# Altium integrated library Infineon_Power_MOSFET.IntLib: 1448 symbols (part 33 of 47)
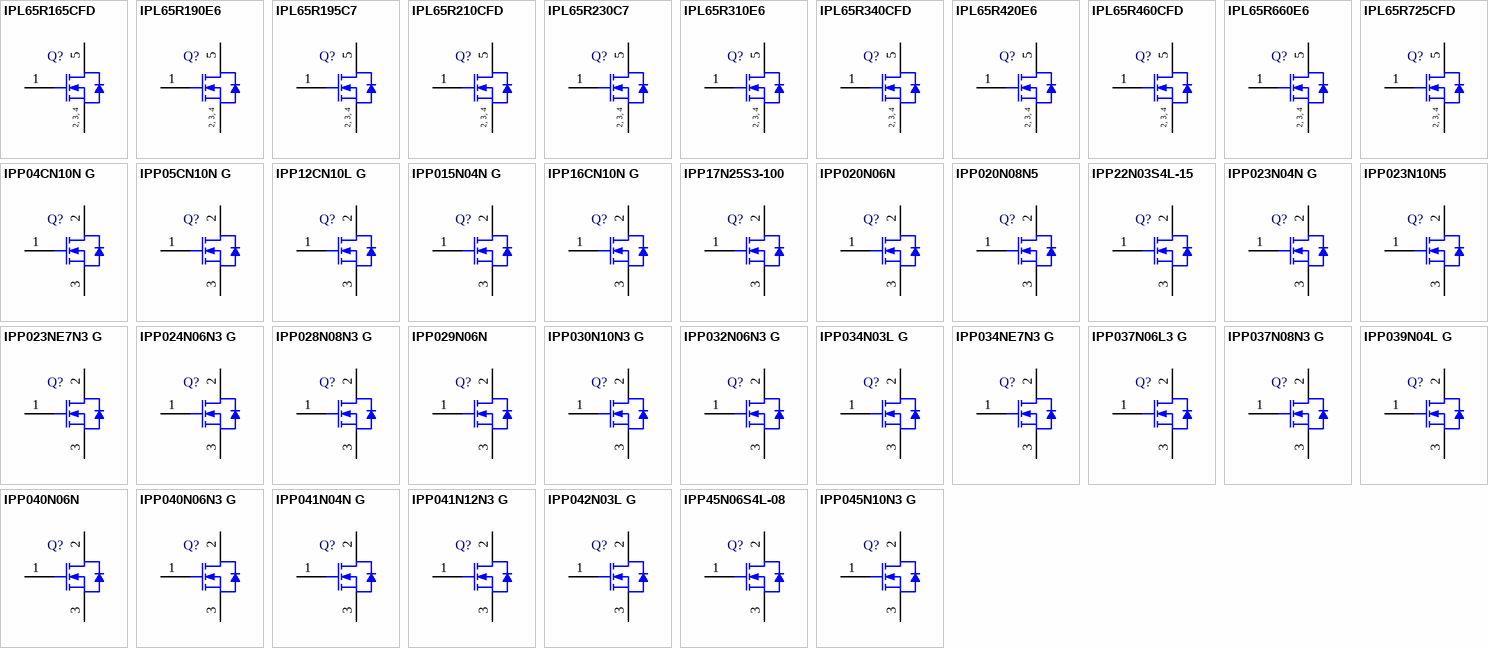
[diagram p69: symbols IPL65R165CFD to IPP045N10N3 G]

## IPP039N04L G
designator Q?
N-Channel OptiMOS 3 Power-Transistor, 40 V VDS, 80 A ID, -55 to 175 degC, PG-TO220-3-1, Tube, Green; Manufacturer: Infineon; PartNumber: IPP039N04L G; Green: TRUE; ID (max): 80 A; IDpuls (max): 400 A; Polarity: N; Ptot (max): 94 W; QG: 28 nC; RDS (on) (max): 3.9 mOhm; RDS (on) (max) (@4.5V): 5.2 mOhm; Rth: 1.6 K/W; RthJA (max): 62 K/W; VDS (max): 40 V; VGS(th) (max): 2 V; VGS(th) (min): 1.2 V; DatasheetVersion: Rev. 1.0; PackageVersion: Jul-12; PackageReference: PG-TO220-3-1; PackageDescription: 3-Pin Plastic (Green) Transistor Single Outline Package, 10 x 9.25 mm Body, 2.54 mm Pitch; Supplier 1: Mouser; Supplier Part Number 1: 726-IPP039N04LG; Supplier 2: Newark; Supplier Part Number 2: 60R2732; Supplier 3: Farnell; Supplier Part Number 3: 1775618; Supplier 4: Digi-Key; Supplier Part Number 4: IPP039N04L G-ND; Halogen-free: TRUE; Packing: Tube; RthJC (max): 1.6 K/W; Mounting Technology: Through Hole; ComponentLink1Description: Manufacturer URL; ComponentLink1URL: http://www.infineon.com/; ComponentLink2Description: Datasheet; ComponentLink2URL: http://www.infineon.com/dgdl/IPB039N04L_rev1%5B1%5D.pdf?folderId=db3a304313b8b5a60113cee8763b02d7&fileId=db3a30432313ff5e01239f14ac947132; ComponentLink3Description: Package Specification; ComponentLink3URL: http://www.infineon.com/dgdl/BTS117_DS_14.pdf?folderId=db3a30431400ef68011421b54e2e0564&fileId=db3a30433a747525013abff8302d549c&location=en.Products.Automotive_ICs.Smart_High-_and_Low-Side_Switches.HITFET___TEMPFET__-_Smart_Low-Side_Switches.DATASHEET.BTS117_DS_14.pdf
footprint INF-PG-TO220-3-1 (FM, 3-Leads, Body 10x4.4mm, Pitch 2.54mm)
pins: 1 GATE, 2 DRAIN, 3 SOURCE

## IPP040N06N
designator Q?
N-Channel OptiMOS Power-Transistor, 60 V VDS, 80 A ID, -55 to 175 degC, PG-TO220-3-1, Tube, Green; Manufacturer: Infineon; PartNumber: IPP040N06N; Green: TRUE; ID (max): 80 A; IDpuls (max): 320 A; Polarity: N; Ptot (max): 107 W; QG: 38 nC; RDS (on) (max): 4 mOhm; Rth: 1.4 K/W; RthJA (max): 62 K/W; VDS (max): 60 V; VGS(th) (max): 3.3 V; VGS(th) (min): 2.1 V; DatasheetVersion: Rev. 2.2; PackageVersion: Rev. 05, 08/2007; PackageReference: PG-TO220-3-1; PackageDescription: 3-Pin Plastic (Green) Transistor Single Outline Package, 10.03 x 8.98 mm Body, 2.54 mm Pitch; Supplier 1: Digi-Key; Supplier Part Number 1: IPP040N06N-ND; Halogen-free: TRUE; Packing: Tube; RthJC (max): 1.4 K/W; Mounting Technology: Through Hole; ComponentLink1Description: Manufacturer URL; ComponentLink1URL: http://www.infineon.com/; ComponentLink2Description: Datasheet; ComponentLink2URL: http://www.infineon.com/dgdl/IPP040N06N_Rev2.2.pdf?folderId=db3a304313b8b5a60113cee8763b02d7&fileId=db3a30433727a44301372bbaa5ad4942; ComponentLink3Description: Package Specification; ComponentLink3URL: http://www.infineon.com/dgdl/IPP028N08N3_Rev1%5B1%5D.0.pdf?folderId=db3a304313b8b5a60113cee8763b02d7&fileId=db3a30432313ff5e0123a3c08e7326b5
footprint INF-PG-TO220-3-1_A_V (FM, 3-Leads, Body 10.03x8.98mm, Pitch 2.54mm)
pins: 1 GATE, 2 DRAIN, 3 SOURCE

## IPP040N06N3 G
designator Q?
N-Channel OptiMOS 3 Power-Transistor, 60 V VDS, 90 A ID, -55 to 175 degC, PG-TO220-3-1, Tube, Green; Manufacturer: Infineon; PartNumber: IPP040N06N3 G; Green: TRUE; ID (max): 90 A; IDpuls (max): 360 A; Polarity: N; Ptot (max): 150 W; QG: 98 nC; RDS (on) (max): 4 mOhm; Rth: 1 K/W; RthJA (max): 62 K/W; RthJC (max): 0.8 K/W; VDS (max): 60 V; VGS(th) (max): 4 V; VGS(th) (min): 2 V; DatasheetVersion: Rev. 1.03; PackageVersion: Rev. 05, 08/2007; PackageReference: PG-TO220-3-1; PackageDescription: 3-Pin Plastic (Green) Transistor Single Outline Package, 10.03 x 8.98 mm Body, 2.54 mm Pitch; Supplier 1: Mouser; Supplier Part Number 1: 726-IPP040N06N3G; Supplier 2: Newark; Supplier Part Number 2: 60R2734; Supplier 3: Farnell; Supplier Part Number 3: 1775619; Supplier 4: Digi-Key; Supplier Part Number 4: IPP040N06N3 G-ND; Halogen-free: TRUE; Packing: Tube; Mounting Technology: Through Hole; ComponentLink1Description: Manufacturer URL; ComponentLink1URL: http://www.infineon.com/; ComponentLink2Description: Datasheet; ComponentLink2URL: http://www.infineon.com/dgdl/IPP040N06N3_Rev13.pdf?folderId=db3a304313b8b5a60113cee8763b02d7&fileId=db3a30432313ff5e01239f31f7be717f; ComponentLink3Description: Package Specification; ComponentLink3URL: http://www.infineon.com/dgdl/IPP028N08N3_Rev1%5B1%5D.0.pdf?folderId=db3a304313b8b5a60113cee8763b02d7&fileId=db3a30432313ff5e0123a3c08e7326b5
footprint INF-PG-TO220-3-1_A_V (FM, 3-Leads, Body 10.03x8.98mm, Pitch 2.54mm)
pins: 1 GATE, 2 DRAIN, 3 SOURCE

## IPP041N04N G
designator Q?
N-Channel OptiMOS 3 Power-Transistor, 40 V VDS, 80 A ID, -55 to 175 degC, PG-TO220-3-1, Tube, Green; Manufacturer: Infineon; PartNumber: IPP041N04N G; Green: TRUE; ID (max): 80 A; IDpuls (max): 400 A; Polarity: N; Ptot (max): 94 W; QG: 42 nC; RDS (on) (max): 4.1 mOhm; Rth: 1.6 K/W; RthJA (max): 62 K/W; VDS (max): 40 V; VGS(th) (max): 4 V; VGS(th) (min): 2 V; DatasheetVersion: Rev. 1.2; PackageVersion: Rev. 05, 08/2007; PackageReference: PG-TO220-3-1; PackageDescription: 3-Pin Plastic (Green) Transistor Single Outline Package, 10.03 x 8.98 mm Body, 2.54 mm Pitch; Supplier 1: Mouser; Supplier Part Number 1: 726-IPP041N04NG; Supplier 2: Farnell; Supplier Part Number 2: 1775620; Supplier 3: Digi-Key; Supplier Part Number 3: IPP041N04N G-ND; Halogen-free: TRUE; Packing: Tube; RthJC (max): 1.6 K/W; Mounting Technology: Through Hole; ComponentLink1Description: Manufacturer URL; ComponentLink1URL: http://www.infineon.com/; ComponentLink2Description: Datasheet; ComponentLink2URL: http://www.infineon.com/dgdl/IPB041N04N_rev2.pdf?folderId=db3a304313b8b5a60113cee8763b02d7&fileId=db3a30432313ff5e01239f19fec57142; ComponentLink3Description: Package Specification; ComponentLink3URL: http://www.infineon.com/dgdl/IPP028N08N3_Rev1%5B1%5D.0.pdf?folderId=db3a304313b8b5a60113cee8763b02d7&fileId=db3a30432313ff5e0123a3c08e7326b5
footprint INF-PG-TO220-3-1_A_V (FM, 3-Leads, Body 10.03x8.98mm, Pitch 2.54mm)
pins: 1 GATE, 2 DRAIN, 3 SOURCE

## IPP041N12N3 G
designator Q?
N-Channel OptiMOS 3 Power-Transistor, 120 V VDS, 120 A ID, -55 to 175 degC, PG-TO220-3-1_A, Tube, Green; Manufacturer: Infineon; PartNumber: IPP041N12N3 G; Green: TRUE; ID (max): 120 A; IDpuls (max): 480 A; Polarity: N; Ptot (max): 300 W; QG: 158 nC; RDS (on) (max): 4.1 mOhm; Rth: 0.5 K/W; RthJA (max): 62 K/W; VDS (max): 120 V; VGS(th) (max): 4 V; VGS(th) (min): 2 V; DatasheetVersion: Rev. 2.2; PackageVersion: Rev. 05, 08/2007; PackageReference: PG-TO220-3-1; PackageDescription: 3-Pin Plastic (Green) Transistor Single Outline Package, 10.03 x 8.98 mm Body, 2.54 mm Pitch; Supplier 1: Mouser; Supplier Part Number 1: 726-IPP041N12N3GXK; Supplier 2: Newark; Supplier Part Number 2: 47W3477; Supplier 3: Farnell; Supplier Part Number 3: 2212848; Supplier 4: Digi-Key; Supplier Part Number 4: IPP041N12N3 G-ND; Halogen-free: TRUE; Packing: Tube; RthJC (max): 0.5 K/W; Mounting Technology: Through Hole; ComponentLink1Description: Manufacturer URL; ComponentLink1URL: http://www.infineon.com/; ComponentLink2Description: Datasheet; ComponentLink2URL: http://www.infineon.com/dgdl/IPP_I_B041N12N3_Rev2.2.pdf?folderId=db3a304313b8b5a60113cee8763b02d7&fileId=db3a30432239cccd0122a75b86467ca4; ComponentLink3Description: Package Specification; ComponentLink3URL: http://www.infineon.com/dgdl/IPP028N08N3_Rev1%5B1%5D.0.pdf?folderId=db3a304313b8b5a60113cee8763b02d7&fileId=db3a30432313ff5e0123a3c08e7326b5
footprint INF-PG-TO220-3-1_A_V (FM, 3-Leads, Body 10.03x8.98mm, Pitch 2.54mm)
pins: 1 GATE, 2 DRAIN, 3 SOURCE

## IPP042N03L G
designator Q?
N-Channel OptiMOS 3 Power-Transistor, 30 V VDS, 70 A ID, -55 to 175 degC, PG-TO220-3-1, Tube, Green; Manufacturer: Infineon; PartNumber: IPP042N03L G; Green: TRUE; ID (max): 70 A; IDpuls (max): 400 A; Polarity: N; Ptot (max): 79 W; QG: 38 nC; RDS (on) (max): 4.2 mOhm; RDS (on) (max) (@4.5V): 6 mOhm; Rth: 1.9 K/W; RthJA (max): 62 K/W; RthJC (max): 1.9 K/W; VDS (max): 30 V; VGS(th) (max): 2.2 V; VGS(th) (min): 1 V; DatasheetVersion: Rev. 2.0; PackageVersion: Rev. 05, 08/2007; PackageReference: PG-TO220-3-1; PackageDescription: 3-Pin Plastic (Green) Transistor Single Outline Package, 10.03 x 8.98 mm Body, 2.54 mm Pitch; Supplier 1: Mouser; Supplier Part Number 1: 726-IPP042N03LG; Supplier 2: Newark; Supplier Part Number 2: 60R2736; Supplier 3: Farnell; Supplier Part Number 3: 1775621; Supplier 4: Digi-Key; Supplier Part Number 4: IPP042N03LGIN-ND; Halogen-free: TRUE; Packing: Tube; Mounting Technology: Through Hole; ComponentLink1Description: Manufacturer URL; ComponentLink1URL: http://www.infineon.com/; ComponentLink2Description: Datasheet; ComponentLink2URL: http://www.infineon.com/dgdl/IPP042N03L_rev2.pdf?folderId=db3a304313b8b5a60113cee8763b02d7&fileId=db3a30432313ff5e01239ec50f64709d; ComponentLink3Description: Package Specification; ComponentLink3URL: http://www.infineon.com/dgdl/IPP028N08N3_Rev1%5B1%5D.0.pdf?folderId=db3a304313b8b5a60113cee8763b02d7&fileId=db3a30432313ff5e0123a3c08e7326b5
footprint INF-PG-TO220-3-1_A_V (FM, 3-Leads, Body 10.03x8.98mm, Pitch 2.54mm)
pins: 1 GATE, 2 DRAIN, 3 SOURCE

## IPP45N06S4L-08
designator Q?
OptiMOS-T2 Power-Transistor, 60 V VDS, 45 A ID, PG-TO220-3-1, Tube, Green; Manufacturer: Infineon; PartNumber: IPP45N06S4L-08; Green: TRUE; ID (max): 45 A; IDpuls (max): 180 A; Ptot (max): 71 W; QG: 49 nC; RDS (on) (max) (@10V): 8.2 mOhm; RDS (on) (max) (@4.5V): 14 mOhm; RthJC (max): 2.1 K/W; VDS (max): 60 V; VGS(th) (max): 2 V; VGS(th) (min): 1.2 V; DatasheetVersion: Rev. 1.0; PackageVersion: Jul-12; PackageReference: PG-TO220-3-1; PackageDescription: 3-Pin Plastic (Green) Transistor Single Outline Package, 10 x 9.25 mm Body, 2.54 mm Pitch; Supplier 1: Mouser; Supplier Part Number 1: 726-IPP45N06S4L-08; Supplier 2: Digi-Key; Supplier Part Number 2: IPP45N06S4L-08-ND; Halogen-free: TRUE; Packing: Tube; Technology: OptiMOS-T2; Mounting Technology: Through Hole; ComponentLink1Description: Manufacturer URL; ComponentLink1URL: http://www.infineon.com/; ComponentLink2Description: Datasheet; ComponentLink2URL: http://www.infineon.com/dgdl/IPP_B_I45N06S4L-08_DS_10.pdf?folderId=db3a30431a5c32f2011a8084a04a6500&fileId=db3a30431ff98815012038fbf79a0d1c&location=en.Products.Automotive_ICs.Automotive_MOSFETs.Single__N-Channel_60V_MOSFETs.DATASHEET.IPP_B_I45N06S4L-08_DS_10.pdf; ComponentLink3Description: Package Specification; ComponentLink3URL: http://www.infineon.com/dgdl/BTS117_DS_14.pdf?folderId=db3a30431400ef68011421b54e2e0564&fileId=db3a30433a747525013abff8302d549c&location=en.Products.Automotive_ICs.Smart_High-_and_Low-Side_Switches.HITFET___TEMPFET__-_Smart_Low-Side_Switches.DATASHEET.BTS117_DS_14.pdf
footprint INF-PG-TO220-3-1 (FM, 3-Leads, Body 10x4.4mm, Pitch 2.54mm)
pins: 1 GATE, 2 DRAIN, 3 SOURCE

## IPP045N10N3 G
designator Q?
N-Channel OptiMOS 3 Power-Transistor, 100 V VDS, 100 A ID, -55 to 175 degC, PG-TO220-3-1, Tube, Green; Manufacturer: Infineon; PartNumber: IPP045N10N3 G; Green: TRUE; ID (max): 100 A; IDpuls (max): 400 A; Polarity: N; Ptot (max): 214 W; QG: 88 nC; RDS (on) (max): 4.5 mOhm; Rth: 0.7 K/W; RthJA (max): 62 K/W; VDS (max): 100 V; VGS(th) (max): 3.5 V; VGS(th) (min): 2 V; DatasheetVersion: Rev. 2.5; PackageVersion: Rev. 05, 08/2007; PackageReference: PG-TO220-3-1; PackageDescription: 3-Pin Plastic (Green) Transistor Single Outline Package, 10.03 x 8.98 mm Body, 2.54 mm Pitch; Supplier 1: Mouser; Supplier Part Number 1: 726-IPP045N10N3G; Supplier 2: Digi-Key; Supplier Part Number 2: IPP045N10N3 G-ND; Halogen-free: TRUE; Packing: Tube; RthJC (max): 0.7 K/W; Mounting Technology: Through Hole; ComponentLink1Description: Manufacturer URL; ComponentLink1URL: http://www.infineon.com/; ComponentLink2Description: Datasheet; ComponentLink2URL: http://www.infineon.com/dgdl/IPP045N10N3+G_Rev2.5.pdf?folderId=db3a304313b8b5a60113cee8763b02d7&fileId=db3a30431ce5fb52011d1e8b0cc31586; ComponentLink3Description: Package Specification; ComponentLink3URL: http://www.infineon.com/dgdl/IPP028N08N3_Rev1%5B1%5D.0.pdf?folderId=db3a304313b8b5a60113cee8763b02d7&fileId=db3a30432313ff5e0123a3c08e7326b5
footprint INF-PG-TO220-3-1_A_V (FM, 3-Leads, Body 10.03x8.98mm, Pitch 2.54mm)
pins: 1 GATE, 2 DRAIN, 3 SOURCE

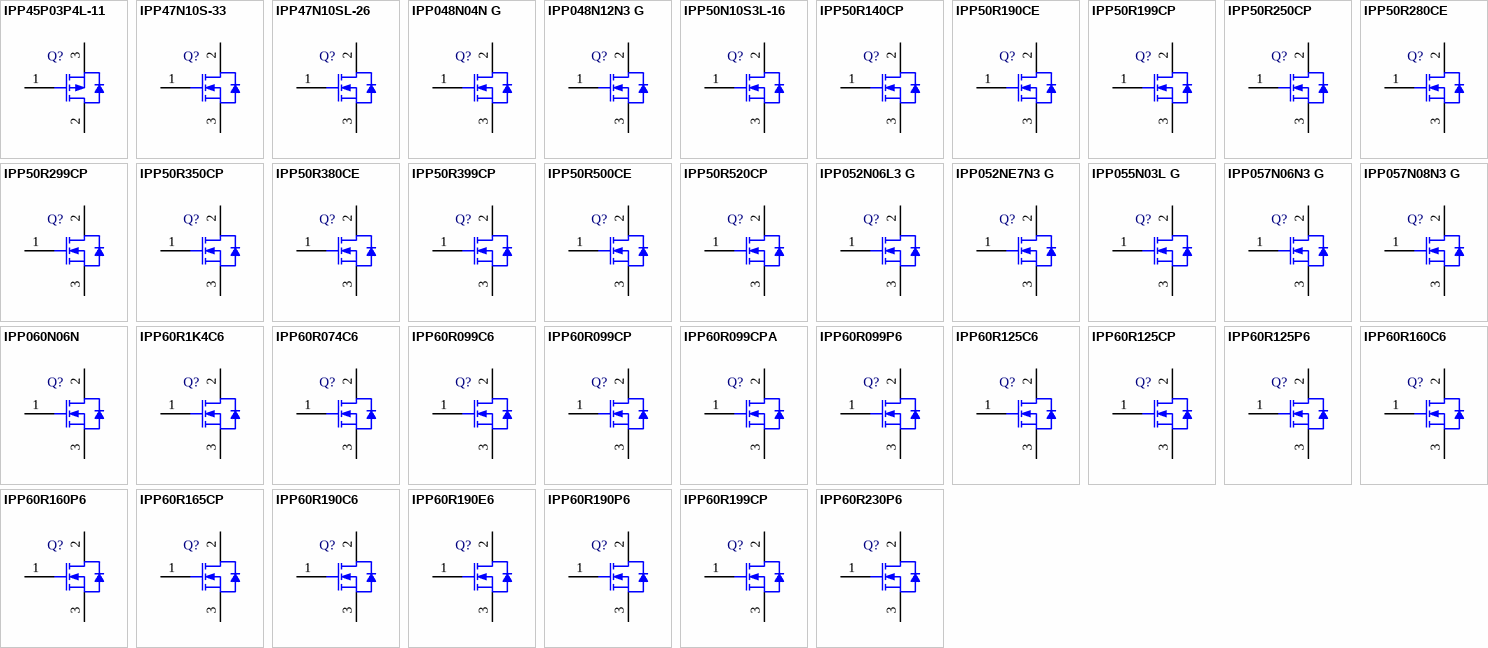
[diagram p26: symbols IPP45P03P4L-11 to IPP60R230P6]

## IPP45P03P4L-11
designator Q?
OptiMOS-P2 Power-Transistor, -30 V VDS, -45 A ID, PG-TO220-3-1, Tube, Green; Manufacturer: Infineon; PartNumber: IPP45P03P4L-11; Green: TRUE; ID (max): -45 A; IDpuls (max): -180 A; Ptot (max): 58 W; QG: 42 nC; RDS (on) (max) (@10V): 11.1 mOhm; RDS (on) (max) (@4.5V): 18.7 mOhm; RthJC (max): 2.6 K/W; VDS (max): -30 V; VGS(th) (max): -2 V; VGS(th) (min): -1 V; DatasheetVersion: Rev. 1.0; PackageVersion: Jul-12; PackageReference: PG-TO220-3-1; PackageDescription: 3-Pin Plastic (Green) Transistor Single Outline Package, 10 x 9.25 mm Body, 2.54 mm Pitch; Supplier 1: Mouser; Supplier Part Number 1: 726-IPP45P03P4L-11; Supplier 2: Digi-Key; Supplier Part Number 2: IPP45P03P4L-11-ND; Halogen-free: TRUE; Packing: Tube; Technology: OptiMOS-P2; Mounting Technology: Through Hole; ComponentLink1Description: Manufacturer URL; ComponentLink1URL: http://www.infineon.com/; ComponentLink2Description: Datasheet; ComponentLink2URL: http://www.infineon.com/dgdl/IPP_B_I45P03P4L-11_DS_10.pdf?folderId=db3a304314dca3890114ef902baa05f9&fileId=db3a30431ddc9372011e07ee39732802&location=en.Products.Automotive_ICs.Automotive_MOSFETs.Single__P-Channel_30V_MOSFETs.DATASHEET.IPP_B_I45P03P4L-11_DS_10.pdf; ComponentLink3Description: Package Specification; ComponentLink3URL: http://www.infineon.com/dgdl/BTS117_DS_14.pdf?folderId=db3a30431400ef68011421b54e2e0564&fileId=db3a30433a747525013abff8302d549c&location=en.Products.Automotive_ICs.Smart_High-_and_Low-Side_Switches.HITFET___TEMPFET__-_Smart_Low-Side_Switches.DATASHEET.BTS117_DS_14.pdf
footprint INF-PG-TO220-3-1 (FM, 3-Leads, Body 10x4.4mm, Pitch 2.54mm)
pins: 1 GATE, 2 DRAIN, 3 SOURCE

## IPP47N10S-33
designator Q?
SIPMOS Power-Transistor, 100 V VDS, 47 A ID, PG-TO220-3-1, Tube, Green; Manufacturer: Infineon; PartNumber: IPP47N10S-33; Green: TRUE; ID (max): 47 A; IDpuls (max): 188 A; Ptot (max): 175 W; QG: 70 nC; RDS (on) (max) (@10V): 33 mOhm; RthJC (max): 0.85 K/W; VDS (max): 100 V; VGS(th) (max): 4 V; VGS(th) (min): 2.1 V; PackageVersion: Jul-12; PackageReference: PG-TO220-3-1; PackageDescription: 3-Pin Plastic (Green) Transistor Single Outline Package, 10 x 9.25 mm Body, 2.54 mm Pitch; Supplier 1: Mouser; Supplier Part Number 1: 726-IPP47N10S-33; Supplier 2: Digi-Key; Supplier Part Number 2: IPP47N10S-33-ND; Halogen-free: TRUE; Packing: Tube; Technology: SIPMOS; Mounting Technology: Through Hole; ComponentLink1Description: Manufacturer URL; ComponentLink1URL: http://www.infineon.com/; ComponentLink2Description: Datasheet; ComponentLink2URL: http://www.infineon.com/dgdl/IPP_B_I47N10S-33.pdf?folderId=db3a304412b407950112b42a6a0a4339&fileId=db3a304412b407950112b42a6f52433e&location=en.Products.Automotive_ICs.Automotive_MOSFETs.Single__N-Channel_100V_MOSFETs.DATASHEET.IPP_B_I47N10S-33.pdf; ComponentLink3Description: Package Specification; ComponentLink3URL: http://www.infineon.com/dgdl/BTS117_DS_14.pdf?folderId=db3a30431400ef68011421b54e2e0564&fileId=db3a30433a747525013abff8302d549c&location=en.Products.Automotive_ICs.Smart_High-_and_Low-Side_Switches.HITFET___TEMPFET__-_Smart_Low-Side_Switches.DATASHEET.BTS117_DS_14.pdf
footprint INF-PG-TO220-3-1 (FM, 3-Leads, Body 10x4.4mm, Pitch 2.54mm)
pins: 1 GATE, 2 DRAIN, 3 SOURCE

## IPP47N10SL-26
designator Q?
SIPMOS Power-Transistor, 100 V VDS, 47 A ID, PG-TO220-3-1, Tube, Green; Manufacturer: Infineon; PartNumber: IPP47N10SL-26; Green: TRUE; ID (max): 47 A; IDpuls (max): 188 A; Ptot (max): 175 W; QG: 90 nC; RDS (on) (max) (@10V): 26 mOhm; RDS (on) (max) (@4.5V): 40 mOhm; RthJC (max): 0.85 K/W; VDS (max): 100 V; VGS(th) (max): 2 V; VGS(th) (min): 1.2 V; PackageVersion: Jul-12; PackageReference: PG-TO220-3-1; PackageDescription: 3-Pin Plastic (Green) Transistor Single Outline Package, 10 x 9.25 mm Body, 2.54 mm Pitch; Supplier 1: Mouser; Supplier Part Number 1: 726-IPP47N10SL-26; Supplier 2: Digi-Key; Supplier Part Number 2: IPP47N10SL-26-ND; Halogen-free: TRUE; Packing: Tube; Technology: SIPMOS; Mounting Technology: Through Hole; ComponentLink1Description: Manufacturer URL; ComponentLink1URL: http://www.infineon.com/; ComponentLink2Description: Datasheet; ComponentLink2URL: http://www.infineon.com/dgdl/IPP_B_I47N10SL-26.pdf?folderId=db3a304412b407950112b42a6a0a4339&fileId=db3a304412b407950112b42a6a78433a&location=en.Products.Automotive_ICs.Automotive_MOSFETs.Single__N-Channel_100V_MOSFETs.DATASHEET.IPP_B_I47N10SL-26.pdf; ComponentLink3Description: Package Specification; ComponentLink3URL: http://www.infineon.com/dgdl/BTS117_DS_14.pdf?folderId=db3a30431400ef68011421b54e2e0564&fileId=db3a30433a747525013abff8302d549c&location=en.Products.Automotive_ICs.Smart_High-_and_Low-Side_Switches.HITFET___TEMPFET__-_Smart_Low-Side_Switches.DATASHEET.BTS117_DS_14.pdf
footprint INF-PG-TO220-3-1 (FM, 3-Leads, Body 10x4.4mm, Pitch 2.54mm)
pins: 1 GATE, 2 DRAIN, 3 SOURCE

## IPP048N04N G
designator Q?
N-Channel OptiMOS 3 Power-Transistor, 40 V VDS, 70 A ID, -55 to 175 degC, PG-TO220-3-1, Tube, Green; Manufacturer: Infineon; PartNumber: IPP048N04N G; Green: TRUE; ID (max): 70 A; IDpuls (max): 400 A; Polarity: N; Ptot (max): 79 W; QG: 31 nC; RDS (on) (max): 4.8 mOhm; Rth: 1.9 K/W; VDS (max): 40 V; VGS(th) (max): 4 V; VGS(th) (min): 2 V; DatasheetVersion: Rev. 1.0; PackageVersion: Rev. 05, 08/2007; PackageReference: PG-TO220-3-1; PackageDescription: 3-Pin Plastic (Green) Transistor Single Outline Package, 10.03 x 8.98 mm Body, 2.54 mm Pitch; Supplier 1: Mouser; Supplier Part Number 1: 726-IPP048N04NG; Supplier 2: Digi-Key; Supplier Part Number 2: IPP048N04N G-ND; Halogen-free: TRUE; Packing: Tube; RthJC (max): 1.9 K/W; Mounting Technology: Through Hole; ComponentLink1Description: Manufacturer URL; ComponentLink1URL: http://www.infineon.com/; ComponentLink2Description: Datasheet; ComponentLink2URL: http://www.infineon.com/dgdl/IPP048N04N_rev1.pdf?folderId=db3a3043163797a6011643468e7505a4&fileId=db3a30432ba3fa6f012bab56ff262ff0; ComponentLink3Description: Package Specification; ComponentLink3URL: http://www.infineon.com/dgdl/IPP028N08N3_Rev1%5B1%5D.0.pdf?folderId=db3a304313b8b5a60113cee8763b02d7&fileId=db3a30432313ff5e0123a3c08e7326b5
footprint INF-PG-TO220-3-1_A_V (FM, 3-Leads, Body 10.03x8.98mm, Pitch 2.54mm)
pins: 1 GATE, 2 DRAIN, 3 SOURCE

## IPP048N12N3 G
designator Q?
N-Channel OptiMOS 3 Power-Transistor, 120 V VDS, 100 A ID, -55 to 175 degC, PG-TO220-3-1, Tube, Green; Manufacturer: Infineon; PartNumber: IPP048N12N3 G; Green: TRUE; ID (max): 100 A; IDpuls (max): 400 A; Polarity: N; Ptot (max): 300 W; QG: 137 nC; RDS (on) (max): 4.8 mOhm; Rth: 0.5 K/W; VDS (max): 120 V; VGS(th) (max): 4 V; VGS(th) (min): 2 V; DatasheetVersion: Rev. 2.1; PackageVersion: Rev. 05, 08/2007; PackageReference: PG-TO220-3-1; PackageDescription: 3-Pin Plastic (Green) Transistor Single Outline Package, 10.03 x 8.98 mm Body, 2.54 mm Pitch; Supplier 1: Mouser; Supplier Part Number 1: 726-IPP048N12N3GXK; Supplier 2: Digi-Key; Supplier Part Number 2: IPP048N12N3 G-ND; Halogen-free: TRUE; Packing: Tube; Mounting Technology: Through Hole; ComponentLink1Description: Manufacturer URL; ComponentLink1URL: http://www.infineon.com/; ComponentLink2Description: Datasheet; ComponentLink2URL: http://www.infineon.com/dgdl/IPP048N12N3+G_Rev2.1.pdf?folderId=db3a304313b8b5a60113cee8763b02d7&fileId=db3a30432239cccd0122a771dd317cc5; ComponentLink3Description: Package Specification; ComponentLink3URL: http://www.infineon.com/dgdl/IPP028N08N3_Rev1%5B1%5D.0.pdf?folderId=db3a304313b8b5a60113cee8763b02d7&fileId=db3a30432313ff5e0123a3c08e7326b5
footprint INF-PG-TO220-3-1_A_V (FM, 3-Leads, Body 10.03x8.98mm, Pitch 2.54mm)
pins: 1 GATE, 2 DRAIN, 3 SOURCE

## IPP50N10S3L-16
designator Q?
OptiMOS-T Power-Transistor, 100 V VDS, 50 A ID, PG-TO220-3-1, Tube, Green; Manufacturer: Infineon; PartNumber: IPP50N10S3L-16; Green: TRUE; ID (max): 50 A; IDpuls (max): 200 A; Ptot (max): 100 W; QG: 49 nC; RDS (on) (max) (@10V): 15.7 mOhm; RDS (on) (max) (@4.5V): 20.9 mOhm; RthJC (max): 1.5 K/W; VDS (max): 100 V; VGS(th) (max): 2.4 V; VGS(th) (min): 1.2 V; DatasheetVersion: Rev. 1.1; PackageVersion: Jul-12; PackageReference: PG-TO220-3-1; PackageDescription: 3-Pin Plastic (Green) Transistor Single Outline Package, 10 x 9.25 mm Body, 2.54 mm Pitch; Supplier 1: Mouser; Supplier Part Number 1: 726-IPP50N10S3L16; Supplier 2: Digi-Key; Supplier Part Number 2: IPP50N10S3L-16-ND; Halogen-free: TRUE; Packing: Tube; Technology: OptiMOS-T; Mounting Technology: Through Hole; ComponentLink1Description: Manufacturer URL; ComponentLink1URL: http://www.infineon.com/; ComponentLink2Description: Datasheet; ComponentLink2URL: http://www.infineon.com/dgdl/IPP_B_I50N10S3L-16_DS_1_1_neu.pdf?folderId=db3a3043156fd5730115c7d50620107c&fileId=db3a30431a5c32f2011a9090a32c5962&location=en.Products.Automotive_ICs.Automotive_MOSFETs.Single__N-Channel_100V_MOSFETs.DATASHEET.IPP_B_I50N10S3L-16_DS_1_1_neu.pdf; ComponentLink3Description: Package Specification; ComponentLink3URL: http://www.infineon.com/dgdl/BTS117_DS_14.pdf?folderId=db3a30431400ef68011421b54e2e0564&fileId=db3a30433a747525013abff8302d549c&location=en.Products.Automotive_ICs.Smart_High-_and_Low-Side_Switches.HITFET___TEMPFET__-_Smart_Low-Side_Switches.DATASHEET.BTS117_DS_14.pdf
footprint INF-PG-TO220-3-1 (FM, 3-Leads, Body 10x4.4mm, Pitch 2.54mm)
pins: 1 GATE, 2 DRAIN, 3 SOURCE

## IPP50R140CP
designator Q?
N-Channel CoolMOS Power-Transistor, 500 V VDS, 23 A ID, -55 to 150 degC, PG-TO220-3-1, Tube, Green; Manufacturer: Infineon; PartNumber: IPP50R140CP; Green: TRUE; ID (max): 23 A; IDpuls (max): 56 A; Polarity: N; Ptot (max): 192 W; QG: 48 nC; RDS (on) (max): 140 mOhm; Rth: 0.65 K/W; RthJA (max): 62 K/W; VDS (max): 500 V; VGS(th) (max): 3.5 V; VGS(th) (min): 2.5 V; DatasheetVersion: Rev. 2.0; PackageVersion: Jul-12; PackageReference: PG-TO220-3-1; PackageDescription: 3-Pin Plastic (Green) Transistor Single Outline Package, 10 x 9.25 mm Body, 2.54 mm Pitch; Supplier 1: Mouser; Supplier Part Number 1: 726-IPP50R140CP; Supplier 2: Digi-Key; Supplier Part Number 2: IPP50R140CP-ND; Halogen-free: TRUE; Packing: Tube; RthJC (max): 0.65 K/W; Technology: CoolMOS CP; Mounting Technology: Through Hole; ComponentLink1Description: Manufacturer URL; ComponentLink1URL: http://www.infineon.com/; ComponentLink2Description: Datasheet; ComponentLink2URL: http://www.infineon.com/dgdl/IPP50R140CP_rev2%5B1%5D.0.pdf?folderId=db3a3043163797a6011637e7be4f0060&fileId=db3a30432313ff5e0123850733ed65ab; ComponentLink3Description: Package Specification; ComponentLink3URL: http://www.infineon.com/dgdl/BTS117_DS_14.pdf?folderId=db3a30431400ef68011421b54e2e0564&fileId=db3a30433a747525013abff8302d549c&location=en.Products.Automotive_ICs.Smart_High-_and_Low-Side_Switches.HITFET___TEMPFET__-_Smart_Low-Side_Switches.DATASHEET.BTS117_DS_14.pdf
footprint INF-PG-TO220-3-1 (FM, 3-Leads, Body 10x4.4mm, Pitch 2.54mm)
pins: 1 GATE, 2 DRAIN, 3 SOURCE

## IPP50R190CE
designator Q?
N-Channel CoolMOS CE Power-Transistor, 500 V VDS, 18.5 A ID, -55 to 150 degC, PG-TO220-3-1, Tube, Green; Manufacturer: Infineon; PartNumber: IPP50R190CE; Green: TRUE; ID (max): 18.5 A; IDpuls (max): 63 A; Polarity: N; Ptot (max): 127 W; QG: 47.2 nC; RDS (on) (max): 190 mOhm; Rth: 3.9 K/W; RthJA (max): 62 K/W; RthJC (max): 0.98 K/W; VDS (max): 500 V; VGS(th) (max): 3.5 V; VGS(th) (min): 2.5 V; DatasheetVersion: Rev. 2.0; PackageVersion: Jul-12; PackageReference: PG-TO220-3-1; PackageDescription: 3-Pin Plastic (Green) Transistor Single Outline Package, 10 x 9.25 mm Body, 2.54 mm Pitch; Supplier 1: Digi-Key; Supplier Part Number 1: IPP50R190CE-ND; Halogen-free: TRUE; Packing: Tube; Technology: CoolMOS CE; Mounting Technology: Through Hole; ComponentLink1Description: Manufacturer URL; ComponentLink1URL: http://www.infineon.com/; ComponentLink2Description: Datasheet; ComponentLink2URL: http://www.infineon.com/dgdl/IPx50R380CE_2.0.pdf?folderId=db3a3043163797a6011637d4bae7003b&fileId=db3a30432e398416012e5273936c15b0; ComponentLink3Description: Package Specification; ComponentLink3URL: http://www.infineon.com/dgdl/BTS117_DS_14.pdf?folderId=db3a30431400ef68011421b54e2e0564&fileId=db3a30433a747525013abff8302d549c&location=en.Products.Automotive_ICs.Smart_High-_and_Low-Side_Switches.HITFET___TEMPFET__-_Smart_Low-Side_Switches.DATASHEET.BTS117_DS_14.pdf
footprint INF-PG-TO220-3-1 (FM, 3-Leads, Body 10x4.4mm, Pitch 2.54mm)
pins: 1 GATE, 2 DRAIN, 3 SOURCE

## IPP50R199CP
designator Q?
N-Channel CoolMOS Power-Transistor, 500 V VDS, 17 A ID, -55 to 150 degC, PG-TO220-3-1, Tube, Green; Manufacturer: Infineon; PartNumber: IPP50R199CP; Green: TRUE; ID (max): 17 A; IDpuls (max): 40 A; Polarity: N; Ptot (max): 139 W; QG: 34 nC; RDS (on) (max): 199 mOhm; Rth: 0.9 K/W; RthJA (max): 62 K/W; VDS (max): 500 V; VGS(th) (max): 3.5 V; VGS(th) (min): 2.5 V; DatasheetVersion: Rev. 2.0; PackageVersion: Jul-12; PackageReference: PG-TO220-3-1; PackageDescription: 3-Pin Plastic (Green) Transistor Single Outline Package, 10 x 9.25 mm Body, 2.54 mm Pitch; Supplier 1: Mouser; Supplier Part Number 1: 726-IPP50R199CP; Supplier 2: Newark; Supplier Part Number 2: 33P7166; Supplier 3: Farnell; Supplier Part Number 3: 1664053; Supplier 4: Digi-Key; Supplier Part Number 4: IPP50R199CP-ND; Halogen-free: TRUE; Packing: Tube; RthJC (max): 0.9 K/W; Technology: CoolMOS CP; Mounting Technology: Through Hole; ComponentLink1Description: Manufacturer URL; ComponentLink1URL: http://www.infineon.com/; ComponentLink2Description: Datasheet; ComponentLink2URL: http://www.infineon.com/dgdl/IPP50R199CP_rev2%5B1%5D.0.pdf?folderId=db3a3043163797a6011637e7be4f0060&fileId=db3a30432313ff5e0123850e86a865bc; ComponentLink3Description: Package Specification; ComponentLink3URL: http://www.infineon.com/dgdl/BTS117_DS_14.pdf?folderId=db3a30431400ef68011421b54e2e0564&fileId=db3a30433a747525013abff8302d549c&location=en.Products.Automotive_ICs.Smart_High-_and_Low-Side_Switches.HITFET___TEMPFET__-_Smart_Low-Side_Switches.DATASHEET.BTS117_DS_14.pdf
footprint INF-PG-TO220-3-1 (FM, 3-Leads, Body 10x4.4mm, Pitch 2.54mm)
pins: 1 GATE, 2 DRAIN, 3 SOURCE

## IPP50R250CP
designator Q?
N-Channel CoolMOS Power-Transistor, 500 V VDS, 13 A ID, -55 to 150 degC, PG-TO220-3-1, Tube, Green; Manufacturer: Infineon; PartNumber: IPP50R250CP; Green: TRUE; ID (max): 13 A; IDpuls (max): 31 A; Polarity: N; Ptot (max): 114 W; QG: 27 nC; RDS (on) (max): 250 mOhm; Rth: 1.1 K/W; RthJA (max): 62 K/W; VDS (max): 500 V; VGS(th) (max): 3.5 V; VGS(th) (min): 2.5 V; DatasheetVersion: Rev. 2.0; PackageVersion: Jul-12; PackageReference: PG-TO220-3-1; PackageDescription: 3-Pin Plastic (Green) Transistor Single Outline Package, 10 x 9.25 mm Body, 2.54 mm Pitch; Supplier 1: Mouser; Supplier Part Number 1: 726-IPP50R250CP; Supplier 2: Digi-Key; Supplier Part Number 2: IPP50R250CP-ND; Halogen-free: TRUE; Packing: Tube; RthJC (max): 1.1 K/W; Technology: CoolMOS CP; Mounting Technology: Through Hole; ComponentLink1Description: Manufacturer URL; ComponentLink1URL: http://www.infineon.com/; ComponentLink2Description: Datasheet; ComponentLink2URL: http://www.infineon.com/dgdl/IPP50R250CP_rev2%5B1%5D.0.pdf?folderId=db3a3043163797a6011637e7be4f0060&fileId=db3a30432313ff5e01238524b91c65ce; ComponentLink3Description: Package Specification; ComponentLink3URL: http://www.infineon.com/dgdl/BTS117_DS_14.pdf?folderId=db3a30431400ef68011421b54e2e0564&fileId=db3a30433a747525013abff8302d549c&location=en.Products.Automotive_ICs.Smart_High-_and_Low-Side_Switches.HITFET___TEMPFET__-_Smart_Low-Side_Switches.DATASHEET.BTS117_DS_14.pdf
footprint INF-PG-TO220-3-1 (FM, 3-Leads, Body 10x4.4mm, Pitch 2.54mm)
pins: 1 GATE, 2 DRAIN, 3 SOURCE

## IPP50R280CE
designator Q?
N-Channel CoolMOS CE Power-Transistor, 500 V VDS, 13 A ID, -55 to 150 degC, PG-TO220-3-1, Tube, Green; Manufacturer: Infineon; PartNumber: IPP50R280CE; Green: TRUE; ID (max): 13 A; IDpuls (max): 42.9 A; Polarity: N; Ptot (max): 92 W; QG: 32.6 nC; RDS (on) (max): 280 mOhm; Rth: 4.11 K/W; RthJA (max): 62 K/W; RthJC (max): 1.36 K/W; VDS (max): 500 V; VGS(th) (max): 3.5 V; VGS(th) (min): 2.5 V; DatasheetVersion: Rev. 2.0; PackageVersion: Jul-12; PackageReference: PG-TO220-3-1; PackageDescription: 3-Pin Plastic (Green) Transistor Single Outline Package, 10 x 9.25 mm Body, 2.54 mm Pitch; Supplier 1: Mouser; Supplier Part Number 1: 726-IPP50R280CE; Supplier 2: Digi-Key; Supplier Part Number 2: IPP50R280CEIN-ND; Halogen-free: TRUE; Packing: Tube; Technology: CoolMOS CE; Mounting Technology: Through Hole; ComponentLink1Description: Manufacturer URL; ComponentLink1URL: http://www.infineon.com/; ComponentLink2Description: Datasheet; ComponentLink2URL: http://www.infineon.com/dgdl/IPx50R280CE+2.0.pdf?folderId=db3a3043156fd5730115c736bcc70ff2&fileId=db3a3043382e837301384ce20ea743c7; ComponentLink3Description: Package Specification; ComponentLink3URL: http://www.infineon.com/dgdl/BTS117_DS_14.pdf?folderId=db3a30431400ef68011421b54e2e0564&fileId=db3a30433a747525013abff8302d549c&location=en.Products.Automotive_ICs.Smart_High-_and_Low-Side_Switches.HITFET___TEMPFET__-_Smart_Low-Side_Switches.DATASHEET.BTS117_DS_14.pdf
footprint INF-PG-TO220-3-1 (FM, 3-Leads, Body 10x4.4mm, Pitch 2.54mm)
pins: 1 GATE, 2 DRAIN, 3 SOURCE

## IPP50R299CP
designator Q?
N-Channel CoolMOS Power-Transistor, 500 V VDS, 12 A ID, -55 to 150 degC, PG-TO220-3-1, Tube, Green; Manufacturer: Infineon; PartNumber: IPP50R299CP; Green: TRUE; ID (max): 12 A; IDpuls (max): 26 A; Polarity: N; Ptot (max): 104 W; QG: 23 nC; RDS (on) (max): 299 mOhm; Rth: 1.2 K/W; RthJA (max): 62 K/W; VDS (max): 500 V; VGS(th) (max): 3.5 V; VGS(th) (min): 2.5 V; DatasheetVersion: Rev. 2.0; PackageVersion: Jul-12; PackageReference: PG-TO220-3-1; PackageDescription: 3-Pin Plastic (Green) Transistor Single Outline Package, 10 x 9.25 mm Body, 2.54 mm Pitch; Supplier 1: Mouser; Supplier Part Number 1: 726-IPP50R299CP; Supplier 2: Newark; Supplier Part Number 2: 33P7168; Supplier 3: Farnell; Supplier Part Number 3: 1664055; Supplier 4: Digi-Key; Supplier Part Number 4: IPP50R299CPIN-ND; Halogen-free: TRUE; Packing: Tube; RthJC (max): 1.2 K/W; Technology: CoolMOS CP; Mounting Technology: Through Hole; ComponentLink1Description: Manufacturer URL; ComponentLink1URL: http://www.infineon.com/; ComponentLink2Description: Datasheet; ComponentLink2URL: http://www.infineon.com/dgdl/IPP50R299CP_rev2%5B1%5D.0.pdf?folderId=db3a3043163797a6011637e7be4f0060&fileId=db3a30432313ff5e0123852caf2b65fc; ComponentLink3Description: Package Specification; ComponentLink3URL: http://www.infineon.com/dgdl/BTS117_DS_14.pdf?folderId=db3a30431400ef68011421b54e2e0564&fileId=db3a30433a747525013abff8302d549c&location=en.Products.Automotive_ICs.Smart_High-_and_Low-Side_Switches.HITFET___TEMPFET__-_Smart_Low-Side_Switches.DATASHEET.BTS117_DS_14.pdf
footprint INF-PG-TO220-3-1 (FM, 3-Leads, Body 10x4.4mm, Pitch 2.54mm)
pins: 1 GATE, 2 DRAIN, 3 SOURCE

## IPP50R350CP
designator Q?
N-Channel CoolMOS Power-Transistor, 500 V VDS, 10 A ID, -55 to 150 degC, PG-TO220-3-1, Tube, Green; Manufacturer: Infineon; PartNumber: IPP50R350CP; Green: TRUE; ID (max): 10 A; IDpuls (max): 22 A; Polarity: N; Ptot (max): 89 W; QG: 19 nC; RDS (on) (max): 350 mOhm; Rth: 1.4 K/W; RthJA (max): 62 K/W; VDS (max): 500 V; VGS(th) (max): 3.5 V; VGS(th) (min): 2.5 V; DatasheetVersion: Rev. 2.1; PackageVersion: Jul-12; PackageReference: PG-TO220-3-1; PackageDescription: 3-Pin Plastic (Green) Transistor Single Outline Package, 10 x 9.25 mm Body, 2.54 mm Pitch; Supplier 1: Mouser; Supplier Part Number 1: 726-IPP50R350CP; Supplier 2: Farnell; Supplier Part Number 2: 1664056; Supplier 3: Digi-Key; Supplier Part Number 3: IPP50R350CPIN-ND; Halogen-free: TRUE; Packing: Tube; RthJC (max): 1.4 K/W; Technology: CoolMOS CP; Mounting Technology: Through Hole; ComponentLink1Description: Manufacturer URL; ComponentLink1URL: http://www.infineon.com/; ComponentLink2Description: Datasheet; ComponentLink2URL: http://www.infineon.com/dgdl/IPP50R350CP_rev2+1_.pdf?folderId=db3a3043163797a6011637e7be4f0060&fileId=db3a30432313ff5e01238540e43d66ad; ComponentLink3Description: Package Specification; ComponentLink3URL: http://www.infineon.com/dgdl/BTS117_DS_14.pdf?folderId=db3a30431400ef68011421b54e2e0564&fileId=db3a30433a747525013abff8302d549c&location=en.Products.Automotive_ICs.Smart_High-_and_Low-Side_Switches.HITFET___TEMPFET__-_Smart_Low-Side_Switches.DATASHEET.BTS117_DS_14.pdf
footprint INF-PG-TO220-3-1 (FM, 3-Leads, Body 10x4.4mm, Pitch 2.54mm)
pins: 1 GATE, 2 DRAIN, 3 SOURCE

## IPP50R380CE
designator Q?
N-Channel CoolMOS CE Power-Transistor, 500 V VDS, 9.9 A ID, -55 to 150 degC, PG-TO220-3-1, Tube, Green; Manufacturer: Infineon; PartNumber: IPP50R380CE; Green: TRUE; ID (max): 9.9 A; IDpuls (max): 30 A; Polarity: N; Ptot (max): 31 W; QG: 32 nC; RDS (on) (max): 380 mOhm; Rth: 1.5 K/W; RthJA (max): 62 K/W; RthJC (max): 1.71 K/W; VDS (max): 500 V; VGS(th) (max): 3.5 V; VGS(th) (min): 2.5 V; DatasheetVersion: Rev. 2.0; PackageVersion: Jul-12; PackageReference: PG-TO220-3-1; PackageDescription: 3-Pin Plastic (Green) Transistor Single Outline Package, 10 x 9.25 mm Body, 2.54 mm Pitch; Supplier 1: Digi-Key; Supplier Part Number 1: IPP50R380CE-ND; Halogen-free: TRUE; Packing: Tube; Technology: CoolMOS CE; Mounting Technology: Through Hole; ComponentLink1Description: Manufacturer URL; ComponentLink1URL: http://www.infineon.com/; ComponentLink2Description: Datasheet; ComponentLink2URL: http://www.infineon.com/dgdl/IPx50R190CE+2.0.pdf?folderId=db3a3043163797a6011637d4bae7003b&fileId=db3a304339d29c450139d43facbe02fb; ComponentLink3Description: Package Specification; ComponentLink3URL: http://www.infineon.com/dgdl/BTS117_DS_14.pdf?folderId=db3a30431400ef68011421b54e2e0564&fileId=db3a30433a747525013abff8302d549c&location=en.Products.Automotive_ICs.Smart_High-_and_Low-Side_Switches.HITFET___TEMPFET__-_Smart_Low-Side_Switches.DATASHEET.BTS117_DS_14.pdf
footprint INF-PG-TO220-3-1 (FM, 3-Leads, Body 10x4.4mm, Pitch 2.54mm)
pins: 1 GATE, 2 DRAIN, 3 SOURCE

## IPP50R399CP
designator Q?
N-Channel CoolMOS Power Transistor, 500 V VDS, 9 A ID, -55 to 150 degC, PG-TO220-3-1, Tube, Green; Manufacturer: Infineon; PartNumber: IPP50R399CP; Green: TRUE; ID (max): 9 A; IDpuls (max): 20 A; Polarity: N; Ptot (max): 83 W; QG: 17 nC; RDS (on) (max): 399 mOhm; Rth: 1.5 K/W; RthJA (max): 62 K/W; VDS (max): 500 V; VGS(th) (max): 3.5 V; VGS(th) (min): 2.5 V; DatasheetVersion: Rev. 2.0; PackageVersion: Jul-12; PackageReference: PG-TO220-3-1; PackageDescription: 3-Pin Plastic (Green) Transistor Single Outline Package, 10 x 9.25 mm Body, 2.54 mm Pitch; Supplier 1: Mouser; Supplier Part Number 1: 726-IPP50R399CP; Supplier 2: Newark; Supplier Part Number 2: 33P7170; Supplier 3: Farnell; Supplier Part Number 3: 1664057; Supplier 4: Digi-Key; Supplier Part Number 4: IPP50R399CP-ND; Halogen-free: TRUE; Packing: Tube; RthJC (max): 1.5 K/W; Technology: CoolMOS CP; Mounting Technology: Through Hole; ComponentLink1Description: Manufacturer URL; ComponentLink1URL: http://www.infineon.com/; ComponentLink2Description: Datasheet; ComponentLink2URL: http://www.infineon.com/dgdl/IPP50R399CP_rev2%5B1%5D.0.pdf?folderId=db3a3043163797a6011637e7be4f0060&fileId=db3a30432313ff5e012385463e2666e0; ComponentLink3Description: Package Specification; ComponentLink3URL: http://www.infineon.com/dgdl/BTS117_DS_14.pdf?folderId=db3a30431400ef68011421b54e2e0564&fileId=db3a30433a747525013abff8302d549c&location=en.Products.Automotive_ICs.Smart_High-_and_Low-Side_Switches.HITFET___TEMPFET__-_Smart_Low-Side_Switches.DATASHEET.BTS117_DS_14.pdf
footprint INF-PG-TO220-3-1 (FM, 3-Leads, Body 10x4.4mm, Pitch 2.54mm)
pins: 1 GATE, 2 DRAIN, 3 SOURCE

## IPP50R500CE
designator Q?
N-Channel CoolMOS CE Power-Transistor, 500 V VDS, 7.6 A ID, -55 to 150 degC, PG-TO220-3-1, Tube, Green; Manufacturer: Infineon; PartNumber: IPP50R500CE; Green: TRUE; ID (max): 7.6 A; IDpuls (max): 24 A; Polarity: N; Ptot (max): 57 W; QG: 18.7 nC; RDS (on) (max): 500 mOhm; Rth: 4.46 K/W; RthJA (max): 62 K/W; RthJC (max): 2.19 K/W; VDS (max): 500 V; VGS(th) (max): 3.5 V; VGS(th) (min): 2.5 V; DatasheetVersion: Rev. 2.0; PackageVersion: Jul-12; PackageReference: PG-TO220-3-1; PackageDescription: 3-Pin Plastic (Green) Transistor Single Outline Package, 10 x 9.25 mm Body, 2.54 mm Pitch; Supplier 1: Mouser; Supplier Part Number 1: 726-IPP50R500CE; Supplier 2: Digi-Key; Supplier Part Number 2: IPP50R500CEIN-ND; Halogen-free: TRUE; Packing: Tube; Technology: CoolMOS CE; Mounting Technology: Through Hole; ComponentLink1Description: Manufacturer URL; ComponentLink1URL: http://www.infineon.com/; ComponentLink2Description: Datasheet; ComponentLink2URL: http://www.infineon.com/dgdl/IPx50R500CE_2.0.pdf?folderId=db3a3043156fd5730115c736bcc70ff2&fileId=db3a3043382e83730138512967f70fce; ComponentLink3Description: Package Specification; ComponentLink3URL: http://www.infineon.com/dgdl/BTS117_DS_14.pdf?folderId=db3a30431400ef68011421b54e2e0564&fileId=db3a30433a747525013abff8302d549c&location=en.Products.Automotive_ICs.Smart_High-_and_Low-Side_Switches.HITFET___TEMPFET__-_Smart_Low-Side_Switches.DATASHEET.BTS117_DS_14.pdf
footprint INF-PG-TO220-3-1 (FM, 3-Leads, Body 10x4.4mm, Pitch 2.54mm)
pins: 1 GATE, 2 DRAIN, 3 SOURCE

## IPP50R520CP
designator Q?
N-Channel CoolMOS Power-Transistor, 500 V VDS, 7.1 A ID, -55 to 150 degC, PG-TO220-3-1, Tube, Green; Manufacturer: Infineon; PartNumber: IPP50R520CP; Green: TRUE; ID (max): 7.1 A; IDpuls (max): 15 A; Polarity: N; Ptot (max): 66 W; QG: 13 nC; RDS (on) (max): 520 mOhm; Rth: 1.9 K/W; RthJA (max): 62 K/W; VDS (max): 500 V; VGS(th) (max): 3.5 V; VGS(th) (min): 2.5 V; DatasheetVersion: Rev. 2.0; PackageVersion: Jul-12; PackageReference: PG-TO220-3-1; PackageDescription: 3-Pin Plastic (Green) Transistor Single Outline Package, 10 x 9.25 mm Body, 2.54 mm Pitch; Supplier 1: Mouser; Supplier Part Number 1: 726-IPP50R520CP; Supplier 2: Newark; Supplier Part Number 2: 33P7171; Supplier 3: Farnell; Supplier Part Number 3: 1664058; Supplier 4: Digi-Key; Supplier Part Number 4: IPP50R520CP-ND; Halogen-free: TRUE; Packing: Tube; RthJC (max): 1.9 K/W; Technology: CoolMOS CP; Mounting Technology: Through Hole; ComponentLink1Description: Manufacturer URL; ComponentLink1URL: http://www.infineon.com/; ComponentLink2Description: Datasheet; ComponentLink2URL: http://www.infineon.com/dgdl/IPP50R520CP_rev2%5B1%5D.0.pdf?folderId=db3a3043163797a6011637e7be4f0060&fileId=db3a30432313ff5e0123854bec2a6712; ComponentLink3Description: Package Specification; ComponentLink3URL: http://www.infineon.com/dgdl/BTS117_DS_14.pdf?folderId=db3a30431400ef68011421b54e2e0564&fileId=db3a30433a747525013abff8302d549c&location=en.Products.Automotive_ICs.Smart_High-_and_Low-Side_Switches.HITFET___TEMPFET__-_Smart_Low-Side_Switches.DATASHEET.BTS117_DS_14.pdf
footprint INF-PG-TO220-3-1 (FM, 3-Leads, Body 10x4.4mm, Pitch 2.54mm)
pins: 1 GATE, 2 DRAIN, 3 SOURCE

## IPP052N06L3 G
designator Q?
N-Channel OptiMOS 3 Power-Transistor, 60 V VDS, 80 A ID, -55 to 175 degC, PG-TO220-3-1, Tube, Green; Manufacturer: Infineon; PartNumber: IPP052N06L3 G; Green: TRUE; ID (max): 80 A; IDpuls (max): 320 A; Polarity: N; Ptot (max): 115 W; QG: 37 nC; RDS (on) (max): 5 mOhm; RDS (on) (max) (@4.5V): 8.3 mOhm; Rth: 1.3 K/W; RthJA (max): 62 K/W; VDS (max): 60 V; VGS(th) (max): 2.2 V; VGS(th) (min): 1.2 V; DatasheetVersion: Rev. 2.4; PackageVersion: Rev. 05, 08/2007; PackageReference: PG-TO220-3-1; PackageDescription: 3-Pin Plastic (Green) Transistor Single Outline Package, 10.03 x 8.98 mm Body, 2.54 mm Pitch; Supplier 1: Mouser; Supplier Part Number 1: 726-IPP052N06L3G; Supplier 2: Digi-Key; Supplier Part Number 2: IPP052N06L3 G-ND; Halogen-free: TRUE; Packing: Tube; RthJC (max): 1.3 K/W; Mounting Technology: Through Hole; ComponentLink1Description: Manufacturer URL; ComponentLink1URL: http://www.infineon.com/; ComponentLink2Description: Datasheet; ComponentLink2URL: http://www.infineon.com/dgdl/IPP_B052N06L3_Rev2.4.pdf?folderId=db3a304313b8b5a60113cee8763b02d7&fileId=db3a30432313ff5e0123a32d97c125b6; ComponentLink3Description: Package Specification; ComponentLink3URL: http://www.infineon.com/dgdl/IPP028N08N3_Rev1%5B1%5D.0.pdf?folderId=db3a304313b8b5a60113cee8763b02d7&fileId=db3a30432313ff5e0123a3c08e7326b5
footprint INF-PG-TO220-3-1_A_V (FM, 3-Leads, Body 10.03x8.98mm, Pitch 2.54mm)
pins: 1 GATE, 2 DRAIN, 3 SOURCE

## IPP052NE7N3 G
designator Q?
N-Channel OptiMOS 3 Power-Transistor, 75 V VDS, 80 A ID, -55 to 175 degC, PG-TO220-3-1, Tube, Green; Manufacturer: Infineon; PartNumber: IPP052NE7N3 G; Green: TRUE; ID (max): 80 A; IDpuls (max): 320 A; Polarity: N; Ptot (max): 150 W; QG: 51 nC; RDS (on) (max): 5.2 mOhm; Rth: 1 K/W; RthJA (max): 62 K/W; VDS (max): 75 V; VGS(th) (max): 3.8 V; VGS(th) (min): 2.3 V; DatasheetVersion: Rev. 2.01; PackageVersion: Rev. 05, 08/2007; PackageReference: PG-TO220-3-1; PackageDescription: 3-Pin Plastic (Green) Transistor Single Outline Package, 10.03 x 8.98 mm Body, 2.54 mm Pitch; Supplier 1: Mouser; Supplier Part Number 1: 726-IPP052NE7N3GXK; Supplier 2: Digi-Key; Supplier Part Number 2: IPP052NE7N3 G-ND; Halogen-free: TRUE; Packing: Tube; RthJC (max): 1 K/W; Mounting Technology: Through Hole; ComponentLink1Description: Manufacturer URL; ComponentLink1URL: http://www.infineon.com/; ComponentLink2Description: Datasheet; ComponentLink2URL: http://www.infineon.com/dgdl/IPP_I052NE7N3_Rev2+01.pdf?folderId=db3a304313b8b5a60113cee8763b02d7&fileId=db3a304320d39d5901210ac80a8c273d; ComponentLink3Description: Package Specification; ComponentLink3URL: http://www.infineon.com/dgdl/IPP028N08N3_Rev1%5B1%5D.0.pdf?folderId=db3a304313b8b5a60113cee8763b02d7&fileId=db3a30432313ff5e0123a3c08e7326b5
footprint INF-PG-TO220-3-1_A_V (FM, 3-Leads, Body 10.03x8.98mm, Pitch 2.54mm)
pins: 1 GATE, 2 DRAIN, 3 SOURCE

## IPP055N03L G
designator Q?
N-Channel OptiMOS 3 Power-Transistor, 30 V VDS, 50 A ID, -55 to 175 degC, PG-TO220-3-1, Tube, Green; Manufacturer: Infineon; PartNumber: IPP055N03L G; Green: TRUE; ID (max): 50 A; IDpuls (max): 350 A; Polarity: N; Ptot (max): 68 W; QG: 15 nC; RDS (on) (max): 5.5 mOhm; RDS (on) (max) (@4.5V): 7.8 mOhm; Rth: 2.2 K/W; RthJA (max): 62 K/W; VDS (max): 30 V; VGS(th) (max): 2.2 V; VGS(th) (min): 1 V; DatasheetVersion: Rev. 1.03; PackageVersion: Rev. 05, 08/2007; PackageReference: PG-TO220-3-1; PackageDescription: 3-Pin Plastic (Green) Transistor Single Outline Package, 10.03 x 8.98 mm Body, 2.54 mm Pitch; Supplier 1: Mouser; Supplier Part Number 1: 726-IPP055N03LG; Supplier 2: Farnell; Supplier Part Number 2: 1775623; Supplier 3: Digi-Key; Supplier Part Number 3: IPP055N03LGIN-ND; Halogen-free: TRUE; Packing: Tube; RthJC (max): 2.2 K/W; Mounting Technology: Through Hole; ComponentLink1Description: Manufacturer URL; ComponentLink1URL: http://www.infineon.com/; ComponentLink2Description: Datasheet; ComponentLink2URL: http://www.infineon.com/dgdl/IPP055N03L_rev2.pdf?folderId=db3a304313b8b5a60113cee8763b02d7&fileId=db3a30432313ff5e01239ec9d89070ad; ComponentLink3Description: Package Specification; ComponentLink3URL: http://www.infineon.com/dgdl/IPP028N08N3_Rev1%5B1%5D.0.pdf?folderId=db3a304313b8b5a60113cee8763b02d7&fileId=db3a30432313ff5e0123a3c08e7326b5
footprint INF-PG-TO220-3-1_A_V (FM, 3-Leads, Body 10.03x8.98mm, Pitch 2.54mm)
pins: 1 GATE, 2 DRAIN, 3 SOURCE

## IPP057N06N3 G
designator Q?
N-Channel OptiMOS 3 Power-Transistor, 60 V VDS, 80 A ID, -55 to 175 degC, PG-TO220-3-1, Tube, Green; Manufacturer: Infineon; PartNumber: IPP057N06N3 G; Green: TRUE; ID (max): 80 A; IDpuls (max): 320 A; Polarity: N; Ptot (max): 115 W; QG: 61 nC; RDS (on) (max): 5.7 mOhm; Rth: 1.3 K/W; RthJA (max): 62 K/W; VDS (max): 60 V; VGS(th) (max): 4 V; VGS(th) (min): 2 V; DatasheetVersion: Rev. 2.2; PackageVersion: Rev. 05, 08/2007; PackageReference: PG-TO220-3-1; PackageDescription: 3-Pin Plastic (Green) Transistor Single Outline Package, 10.03 x 8.98 mm Body, 2.54 mm Pitch; Supplier 1: Mouser; Supplier Part Number 1: 726-IPP057N06N3G; Supplier 2: Digi-Key; Supplier Part Number 2: IPP057N06N3 G-ND; Halogen-free: TRUE; Packing: Tube; RthJC (max): 1.3 K/W; Mounting Technology: Through Hole; ComponentLink1Description: Manufacturer URL; ComponentLink1URL: http://www.infineon.com/; ComponentLink2Description: Datasheet; ComponentLink2URL: http://www.infineon.com/dgdl/IPP_B057N06N3_Rev2.2.pdf?folderId=db3a304313b8b5a60113cee8763b02d7&fileId=db3a30432313ff5e0123a334d13425c6; ComponentLink3Description: Package Specification; ComponentLink3URL: http://www.infineon.com/dgdl/IPP028N08N3_Rev1%5B1%5D.0.pdf?folderId=db3a304313b8b5a60113cee8763b02d7&fileId=db3a30432313ff5e0123a3c08e7326b5
footprint INF-PG-TO220-3-1_A_V (FM, 3-Leads, Body 10.03x8.98mm, Pitch 2.54mm)
pins: 1 GATE, 2 DRAIN, 3 SOURCE

## IPP057N08N3 G
designator Q?
N-Channel OptiMOS 3 Power-Transistor, 80 V VDS, 80 A ID, -55 to 175 degC, PG-TO220-3-1, Tube, Green; Manufacturer: Infineon; PartNumber: IPP057N08N3 G; Green: TRUE; ID (max): 80 A; IDpuls (max): 320 A; Polarity: N; Ptot (max): 150 W; QG: 52 nC; RDS (on) (max): 5.7 mOhm; Rth: 1 K/W; RthJA (max): 62 K/W; VDS (max): 80 V; VGS(th) (max): 3.5 V; VGS(th) (min): 2 V; DatasheetVersion: Rev. 1.2; PackageVersion: Rev. 05, 08/2007; PackageReference: PG-TO220-3-1; PackageDescription: 3-Pin Plastic (Green) Transistor Single Outline Package, 10.03 x 8.98 mm Body, 2.54 mm Pitch; Supplier 1: Newark; Supplier Part Number 1: 60R2741; Supplier 2: Farnell; Supplier Part Number 2: 1775626; Supplier 3: Digi-Key; Supplier Part Number 3: IPP057N08N3 G-ND; Halogen-free: TRUE; Packing: Tube; RthJC (max): 1 K/W; Mounting Technology: Through Hole; ComponentLink1Description: Manufacturer URL; ComponentLink1URL: http://www.infineon.com/; ComponentLink2Description: Datasheet; ComponentLink2URL: http://www.infineon.com/dgdl/IPP057N08N3_Rev1.2.pdf?folderId=db3a304313b8b5a60113cee8763b02d7&fileId=db3a304317a748360117cf0cf5951d06; ComponentLink3Description: Package Specification; ComponentLink3URL: http://www.infineon.com/dgdl/IPP028N08N3_Rev1%5B1%5D.0.pdf?folderId=db3a304313b8b5a60113cee8763b02d7&fileId=db3a30432313ff5e0123a3c08e7326b5
footprint INF-PG-TO220-3-1_A_V (FM, 3-Leads, Body 10.03x8.98mm, Pitch 2.54mm)
pins: 1 GATE, 2 DRAIN, 3 SOURCE

## IPP060N06N
designator Q?
N-Channel OptiMOS Power-Transistor, 60 V VDS, 45 A ID, -55 to 175 degC, PG-TO220-3-1, Tube, Green; Manufacturer: Infineon; PartNumber: IPP060N06N; Green: TRUE; ID (max): 45 A; IDpuls (max): 180 A; Polarity: N; Ptot (max): 83 W; QG: 27 nC; RDS (on) (max): 6 mOhm; Rth: 1.8 K/W; RthJA (max): 62 K/W; VDS (max): 60 V; VGS(th) (max): 3.3 V; VGS(th) (min): 2.1 V; DatasheetVersion: Rev. 2.2; PackageVersion: Rev. 05, 08/2007; PackageReference: PG-TO220-3-1; PackageDescription: 3-Pin Plastic (Green) Transistor Single Outline Package, 10.03 x 8.98 mm Body, 2.54 mm Pitch; Supplier 1: Digi-Key; Supplier Part Number 1: IPP060N06N-ND; Halogen-free: TRUE; Packing: Tube; RthJC (max): 1.8 K/W; Mounting Technology: Through Hole; ComponentLink1Description: Manufacturer URL; ComponentLink1URL: http://www.infineon.com/; ComponentLink2Description: Datasheet; ComponentLink2URL: http://www.infineon.com/dgdl/IPP060N06N_Rev2.2.pdf?folderId=db3a304313b8b5a60113cee8763b02d7&fileId=db3a30433727a44301372c06d9d7498a; ComponentLink3Description: Package Specification; ComponentLink3URL: http://www.infineon.com/dgdl/IPP028N08N3_Rev1%5B1%5D.0.pdf?folderId=db3a304313b8b5a60113cee8763b02d7&fileId=db3a30432313ff5e0123a3c08e7326b5
footprint INF-PG-TO220-3-1_A_V (FM, 3-Leads, Body 10.03x8.98mm, Pitch 2.54mm)
pins: 1 GATE, 2 DRAIN, 3 SOURCE

## IPP60R1K4C6
designator Q?
N-Channel CoolMOS C6 Power-Transistor, 600 V VDS, 3.2 A ID, -55 to 150 degC, PG-TO220-3-1, Tube, Green; Manufacturer: Infineon; PartNumber: IPP60R1K4C6; Green: TRUE; ID (max): 3.2 A; IDpuls (max): 8 A; Polarity: N; Ptot (max): 28.4 W; QG: 9.4 nC; RDS (on) (max): 1,400 mOhm; Rth: 4.4 K/W; RthJA (max): 62 K/W; VDS (max): 600 V; VGS(th) (max): 3.5 V; VGS(th) (min): 2.5 V; DatasheetVersion: Rev. 2.0; PackageVersion: Jul-12; PackageReference: PG-TO220-3-1; PackageDescription: 3-Pin Plastic (Green) Transistor Single Outline Package, 10 x 9.25 mm Body, 2.54 mm Pitch; Halogen-free: TRUE; Packing: Tube; RthJC (max): 4.4 K/W; Technology: CoolMOS C6; Mounting Technology: Through Hole; ComponentLink1Description: Manufacturer URL; ComponentLink1URL: http://www.infineon.com/; ComponentLink2Description: Datasheet; ComponentLink2URL: http://www.infineon.com/dgdl/DS_IPP60R1K4C6.pdf?folderId=db3a3043163797a6011637d4bae7003b&fileId=db3a30433899edae0138b2b95bbb0f7e; ComponentLink3Description: Package Specification; ComponentLink3URL: http://www.infineon.com/dgdl/BTS117_DS_14.pdf?folderId=db3a30431400ef68011421b54e2e0564&fileId=db3a30433a747525013abff8302d549c&location=en.Products.Automotive_ICs.Smart_High-_and_Low-Side_Switches.HITFET___TEMPFET__-_Smart_Low-Side_Switches.DATASHEET.BTS117_DS_14.pdf
footprint INF-PG-TO220-3-1 (FM, 3-Leads, Body 10x4.4mm, Pitch 2.54mm)
pins: 1 GATE, 2 DRAIN, 3 SOURCE